# Altium schematic symbol library 1880.SchLib: 1 symbol
Pins are listed as number, name and electrical type; pins without a type are passive.

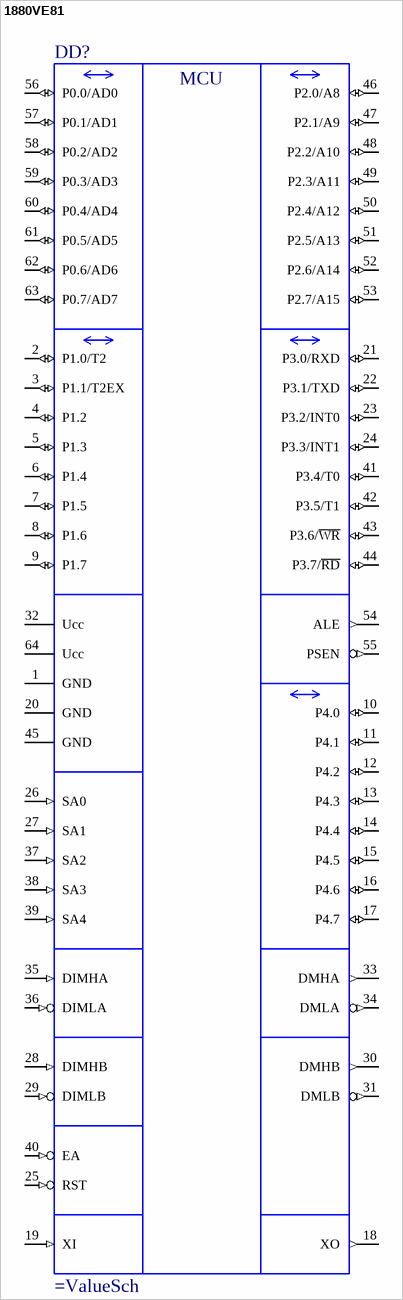
[diagram p0: symbol 1880VE81]

## 1880VE81
designator DD?
MCU MCS-51 with MIL-1553B codec
pins: 1 GND (power), 2 P1.0/T2 (io) "P1.0 or T2", 3 P1.1/T2EX (io) "P1.1 or T2EX", 4 P1.2 (io), 5 P1.3 (io), 6 P1.4 (io), 7 P1.5 (io), 8 P1.6 (io), 9 P1.7 (io), 10 P4.0 (io), 11 P4.1 (io), 12 P4.2 (io), 13 P4.3 (io), 14 P4.4 (io), 15 P4.5 (io), 16 P4.6 (io), 17 P4.7 (io), 18 XO (out) "Quartz resonator output", 19 XI (in) "Quartz resonator input", 20 GND (power), 21 P3.0/RXD (io) "P3.0 or RXD UART", 22 P3.1/TXD (io) "P3.1 or TXD UART", 23 P3.2/INT0 (io) "P3.2 or Interupt 0", 24 P3.3/INT1 (io) "P3.3 or Interupt 1", 25 RST (in) "Reset input", 26 SA0 (in) "Input Addres0 MIL-1553B device", 27 SA1 (in) "Input Addres0 MIL-1553B device", 28 DIMHB (in) "MIL-1553B Canel B positiv", 29 DIMLB (in) "MIL-1553B Canel B negativ", 30 DMHB (out) "MIL-1553B Canel B positiv output", 31 DMLB (out) "MIL-1553B Canel B negativ output", 32 Ucc (power) "Vcc", 33 DMHA (out) "MIL-1553B Canel A positiv output", 34 DMLA (out) "MIL-1553B Canel A negativ output", 35 DIMHA (in) "MIL-1553B Canel A positiv input", 36 DIMLA (in) "MIL-1553B Canel A negativ input", 37 SA2 (in) "Input Addres0 MIL-1553B device", 38 SA3 (in) "Input Addres0 MIL-1553B device", 39 SA4 (in) "Input Addres0 MIL-1553B device", 40 EA (in) "External access enable input", 41 P3.4/T0 (io) "P3.4 or timer0", 42 P3.5/T1 (io) "P3.5 or timer1", 43 P3.6/~{WR} (io) "P3.6 or Write strobe", 44 P3.7/~{RD} (io) "P3.7 or Read strobe", 45 GND (power), 46 P2.0/A8 (io) "P2.0 in/out or A8 out", 47 P2.1/A9 (io) "P2.1 in/out or A9 out", 48 P2.2/A10 (io) "P2.2 in/out or A10 out", 49 P2.3/A11 (io) "P2.3 in/out or A11 out", 50 P2.4/A12 (io) "P2.4 in/out or A12 out", 51 P2.5/A13 (io) "P2.5 in/out or A13 out", 52 P2.6/A14 (io) "P2.6 in/out or A14 out", 53 P2.7/A15 (io) "P2.7 in/out or A15 out", 54 ALE (out) "Address Latch Enable output", 55 PSEN (out) "Program Storage Enable output", 56 P0.0/AD0 (io) "P0.0 or Addres/Data(0) inout", 57 P0.1/AD1 (io) "P0.1 or Addres/Data(1) inout", 58 P0.2/AD2 (io) "P0.2 or Addres/Data(2) inout", 59 P0.3/AD3 (io) "P0.3 or Addres/Data(3) inout", 60 P0.4/AD4 (io) "P0.4 or Addres/Data(4) inout", 61 P0.5/AD5 (io) "P0.5 or Addres/Data(5) inout", 62 P0.6/AD6 (io) "P0.6 or Addres/Data(6) inout", 63 P0.7/AD7 (io) "P0.7 or Addres/Data(7) inout", 64 Ucc (power) "Vcc"
text: MCU